# EAGLE library part GL850G (library BaseApp)
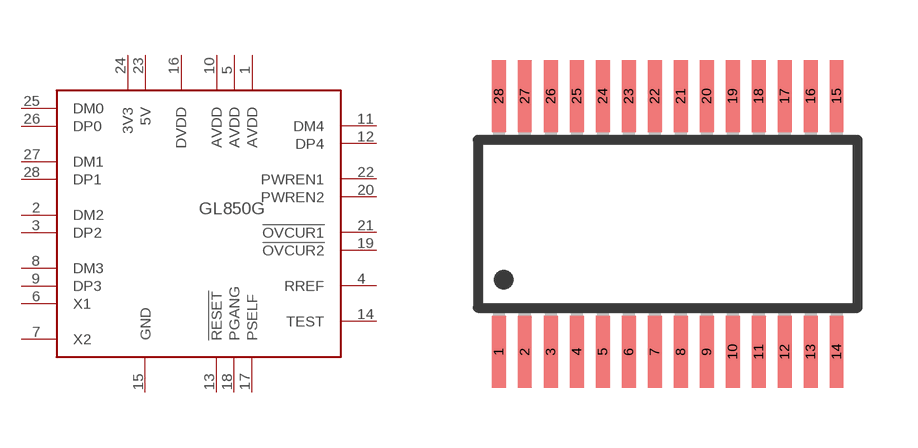
[diagram p45: symbol with the pads of 28SSOP; footprint 28SSOP]

Designator prefix GL850G

## GL850G  [28SSOP]
1  AVDD
2  DM2
3  DP2
4  RREF
5  AVDD
6  X1
7  X2
8  DM3
9  DP3
10  AVDD
11  DM4
12  DP4
13  !RESET
14  TEST
15  GND
16  DVDD
17  PSELF
18  PGANG
19  !OVCUR2
20  PWREN2
21  !OVCUR1
22  PWREN1
23  5V
24  3V3
25  DM0
26  DP0
27  DM1
28  DP1

## Footprint 28SSOP (pad centres in mm)
smd 0.35 x 1.8: 1 -4.225,-3.2; 2 -3.575,-3.2; 3 -2.925,-3.2; 4 -2.275,-3.2; 5 -1.625,-3.2; 6 -0.975,-3.2; 7 -0.325,-3.2; 8 0.325,-3.2; 9 0.975,-3.2; 10 1.625,-3.2; 11 2.275,-3.2; 12 2.925,-3.2; 13 3.575,-3.2; 14 4.225,-3.2; 15 4.225,3.2; 16 3.575,3.2; 17 2.925,3.2; 18 2.275,3.2; 19 1.625,3.2; 20 0.975,3.2; 21 0.325,3.2; 22 -0.325,3.2; 23 -0.975,3.2; 24 -1.625,3.2; 25 -2.275,3.2; 26 -2.925,3.2; 27 -3.575,3.2; 28 -4.225,3.2